# EAGLE library part DIGIPOT-MCP44X1 (library Pygmy)
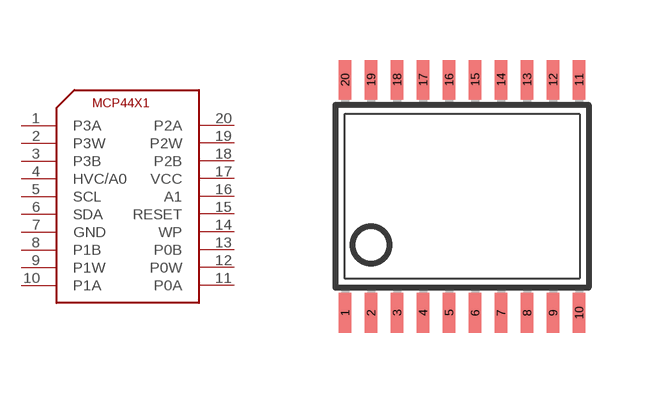
[diagram p51: symbol with the pads of TSSOP20; footprint TSSOP20]

Designator prefix -

## DIGIPOT-MCP44X1  [TSSOP20]
1  P3A
2  P3W
3  P3B
4  HVC/A0
5  SCL
6  SDA
7  GND
8  P1B
9  P1W
10  P1A
11  P0A
12  P0W
13  P0B
14  WP
15  RESET
16  A1
17  VCC
18  P2B
19  P2W
20  P2A

## Footprint TSSOP20 (pad centres in mm)
Thin Shrink Small Outline Plastic 20 MAX3223-MAX3243.pdf
smd 0.305 x 0.991: 1 -2.925,-2.918; 2 -2.275,-2.918; 3 -1.625,-2.918; 4 -0.975,-2.918; 5 -0.325,-2.918; 6 0.325,-2.918; 7 0.975,-2.918; 8 1.625,-2.918; 9 2.275,-2.918; 10 2.925,-2.918; 11 2.925,2.918; 12 2.275,2.918; 13 1.625,2.918; 14 0.975,2.918; 15 0.325,2.918; 16 -0.325,2.918; 17 -0.975,2.918; 18 -1.625,2.918; 19 -2.275,2.918; 20 -2.925,2.918